# Altium footprint library JN3.PcbLib: 1 footprints
Each footprint in its own frame and in the unit in brackets; x right, y up, seen from the top. Pads: shape width x height; smd on the part's side, far side on the other; paste and mask are expansions set on the pad; w line width, h text height; cw(c..) or ccw(c..) is an arc to the next point about the centre after c.
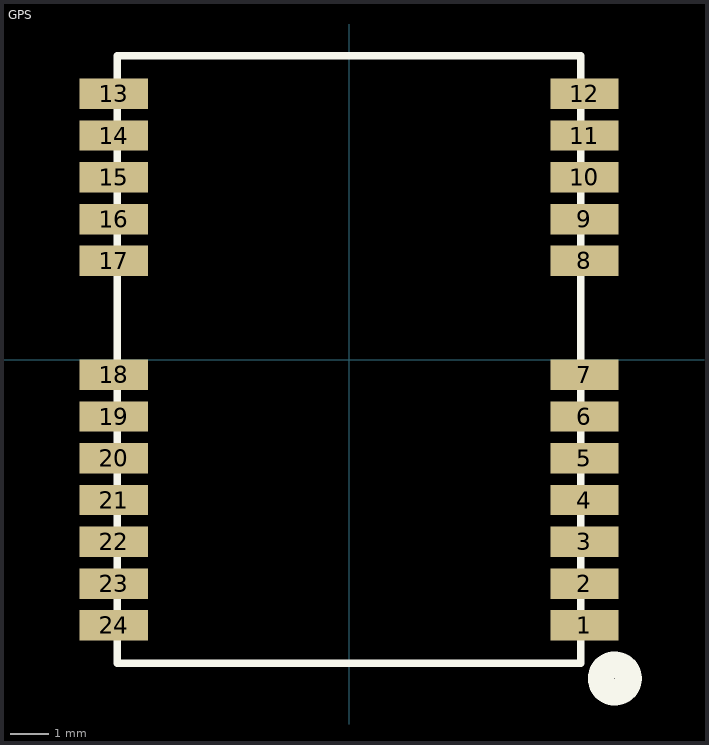
[diagram p0: the footprint, top view; thin cyan lines are the x and y axes]

## GPS [mm]
pads (24):
  rect 1.8x0.8 smd: 1(6.2,-7) 2(6.2,-5.9) 3(6.2,-4.8) 4(6.2,-3.7) 5(6.2,-2.6) 6(6.2,-1.5) 7(6.2,-0.4) 8(6.2,2.6) 9(6.2,3.7) 10(6.2,4.8) 11(6.2,5.9) 12(6.2,7) 13(-6.2,7) 14(-6.2,5.9) 15(-6.2,4.8) 16(-6.2,3.7) 17(-6.2,2.6) 18(-6.2,-0.4) 19(-6.2,-1.5) 20(-6.2,-2.6) 21(-6.2,-3.7) 22(-6.2,-4.8) 23(-6.2,-5.9) 24(-6.2,-7)
Top Overlay:
  circle w0.7: c7,-8.4 r0.361
  lines w0.2: -6.1,-8 6.1,-8 6.1,8 -6.1,8 -6.1,-8
3D body "gps jn3 novman.STEP": height 2.4, standoff 0, extent -6,-8.1 6.2,7.9